# Altium schematic symbol library TP1.0-SMD.SchLib: 1 symbol
Pins are listed as number, name and electrical type; pins without a type are passive.

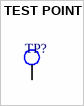
[diagram p0: symbol TEST POINT]

## TEST POINT
designator TP?  (value not drawn)
footprint TP1.0-SMD
pins: 1 "Anode"